# EAGLE library part MCP1640 (library gecko)
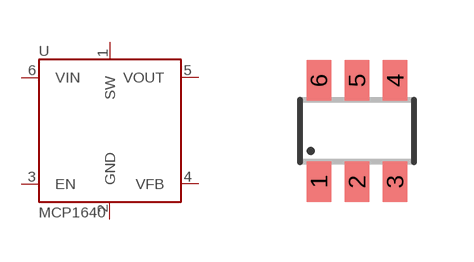
[diagram p0: symbol with the pads of SOT-23-6; footprint SOT-23-6]

Designator prefix U

## MCP1640  [SOT-23-6]
1  SW
2  GND  pwr
3  EN  in
4  VFB  in
5  VOUT  out
6  VIN  in

## Footprint SOT-23-6 (pad centres in mm)
smd 0.61 x 1.016: 1 -0.953,-1.27; 2 0,-1.27; 3 0.953,-1.27; 4 0.953,1.27; 5 0,1.27; 6 -0.953,1.27